# Altium schematic symbol library 0402_Resistor.SchLib: 1 symbol
Pins are listed as number, name and electrical type; pins without a type are passive.

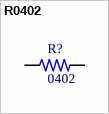
[diagram p0: symbol R0402]

## R0402
designator R?, comment 0402
MP: 6-1676480-4; Package: None; Price: None; Value: *; Availability: Unavailable
footprint RESC1005X40X25ML05T05 (Chip Resistor, 2-Leads, Body 1.05x0.55mm, IPC Low Density)
pins: 1, 2